# Altium footprint library SAMTEC_SMPM-PC-P-HG-ST-TH-1.PcbLib: 1 footprints
Each footprint in its own frame and in the unit in brackets; x right, y up, seen from the top. Pads: shape width x height; smd on the part's side, far side on the other; paste and mask are expansions set on the pad; w line width, h text height; cw(c..) or ccw(c..) is an arc to the next point about the centre after c.
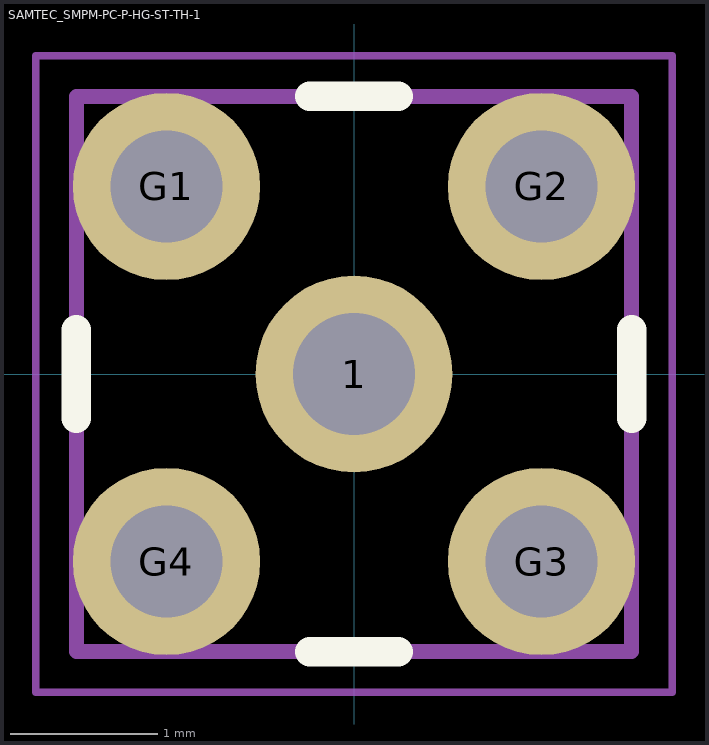
[diagram p0: the footprint, top view; thin cyan lines are the x and y axes]

## SAMTEC_SMPM-PC-P-HG-ST-TH-1 [mm]
height 4.93
pads (5):
  round 1.334 hole 0.826: 1(0,0)
  round 1.268 hole 0.76: G1(-1.27,1.27) G2(1.27,1.27) G3(1.27,-1.27) G4(-1.27,-1.27)
Top Overlay:
  lines w0.2: -1.88,-0.3 -1.88,0.3 ; -0.3,-1.88 0.3,-1.88 ; -0.3,1.88 0.3,1.88 ; 1.88,-0.3 1.88,0.3
Mechanical 13:
  lines w0.1: -1.88,-1.88 1.88,-1.88 1.88,1.88 -1.88,1.88 -1.88,-1.88
Mechanical 15:
  lines w0.05: -2.155,-2.155 2.155,-2.155 2.155,2.155 -2.155,2.155 -2.155,-2.155